# Altium schematic symbol library SCH - POWER - SWITCHMODE - TI TPS62026_DRC_10.SchLib: 1 symbol
Pins are listed as number, name and electrical type; pins without a type are passive.

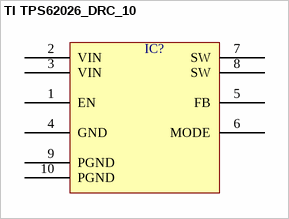
[diagram p0: symbol TI TPS62026_DRC_10]

## TI TPS62026_DRC_10
designator IC?  (value not drawn)
pins: 1 EN, 2 VIN, 3 VIN, 4 GND, 5 FB, 6 MODE, 7 SW, 8 SW, 9 PGND, 10 PGND